# Altium footprint library BZT52C12T-7.PcbLib: 1 footprints
Each footprint in its own frame and in the unit in brackets; x right, y up, seen from the top. Pads: shape width x height; smd on the part's side, far side on the other; paste and mask are expansions set on the pad; w line width, h text height; cw(c..) or ccw(c..) is an arc to the next point about the centre after c.
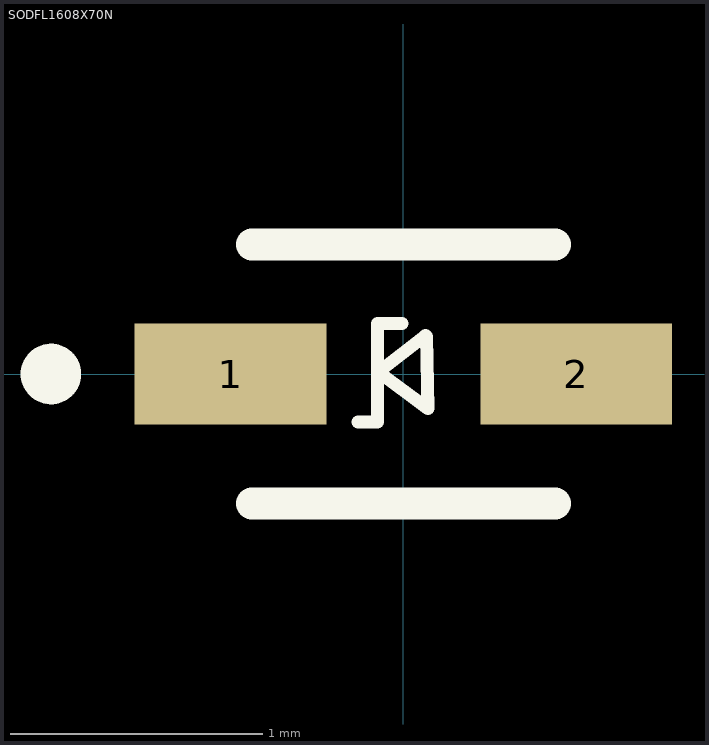
[diagram p0: the footprint, top view; thin cyan lines are the x and y axes]

## SODFL1608X70N [mm]
height 0.7
pads (2):
  rect 0.76x0.4 smd: 1(-0.685,0) 2(0.685,0)
Top Overlay:
  circle w0.12: c-1.397,0 r0.06
  lines w0.051: -0.18,-0.19 -0.103,-0.19 -0.103,0.2 -0.006,0.2 ; 0.087,0.152 -0.099,0.008 0.097,-0.137 0.091,0.148
  lines w0.127: -0.6,-0.513 0.6,-0.513 ; -0.6,0.513 0.6,0.513
3D body "BZT52C3V3T-7.STEP": height 0.66, standoff 0.01, extent -0.8,-0.4 0.8,0.4